# EAGLE library part FFC-CONNECT (library CanCubeSat)
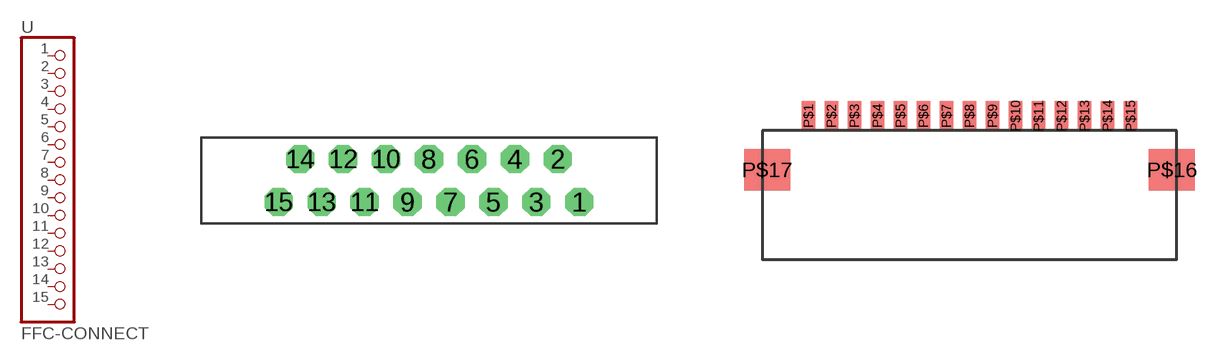
[diagram p25: symbol with the pads of SLW15S; footprints SLW15S, 68611]

Designator prefix -

## FFC-CONNECT  [SLW15S]
1  1  pas
2  2  pas
3  3  pas
4  4  pas
5  5  pas
6  6  pas
7  7  pas
8  8  pas
9  9  pas
10  10  pas
11  11  pas
12  12  pas
13  13  pas
14  14  pas
15  15  pas

## FFC-CONNECT68611  [68611]
P$1  1  pas
P$2  2  pas
P$3  3  pas
P$4  4  pas
P$5  5  pas
P$6  6  pas
P$7  7  pas
P$8  8  pas
P$9  9  pas
P$10  10  pas
P$11  11  pas
P$12  12  pas
P$13  13  pas
P$14  14  pas
P$15  15  pas

## Footprint SLW15S (pad centres in mm)
drill 0.8 octagon: 1 7,-1; 2 6,1; 3 5,-1; 4 4,1; 5 3,-1; 6 2,1; 7 1,-1; 8 0,1; 9 -1,-1; 10 -2,1; 11 -3,-1; 12 -4,1; 13 -5,-1; 14 -6,1; 15 -7,-1

## Footprint 68611 (pad centres in mm)
smd 0.6 x 1.3: P$1 -7,0.65; P$2 -6,0.65; P$3 -5,0.65; P$4 -4,0.65; P$5 -3,0.65; P$6 -2,0.65; P$7 -1,0.65; P$8 0,0.65; P$9 1,0.65; P$10 2,0.65; P$11 3,0.65; P$12 4,0.65; P$13 5,0.65; P$14 6,0.65; P$15 7,0.65
smd 2 x 1.8: P$16 8.8,-1.7; P$17 -8.8,-1.7